# Altium schematic symbol library SCH - POWER - SWITCHMODE - TI TPS60212_DGS_10.SchLib: 1 symbol
Pins are listed as number, name and electrical type; pins without a type are passive.

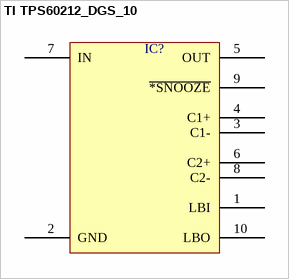
[diagram p0: symbol TI TPS60212_DGS_10]

## TI TPS60212_DGS_10
designator IC?  (value not drawn)
pins: 1 LBI, 2 GND, 3 C1-, 4 C1+, 5 OUT, 6 C2+, 7 IN, 8 C2-, 9 ~{*SNOOZE}, 10 LBO